# Altium footprint library AltiumDesigner.PcbLib: 1 footprints
Each footprint in its own frame and in the unit in brackets; x right, y up, seen from the top. Pads: shape width x height; smd on the part's side, far side on the other; paste and mask are expansions set on the pad; w line width, h text height; cw(c..) or ccw(c..) is an arc to the next point about the centre after c.
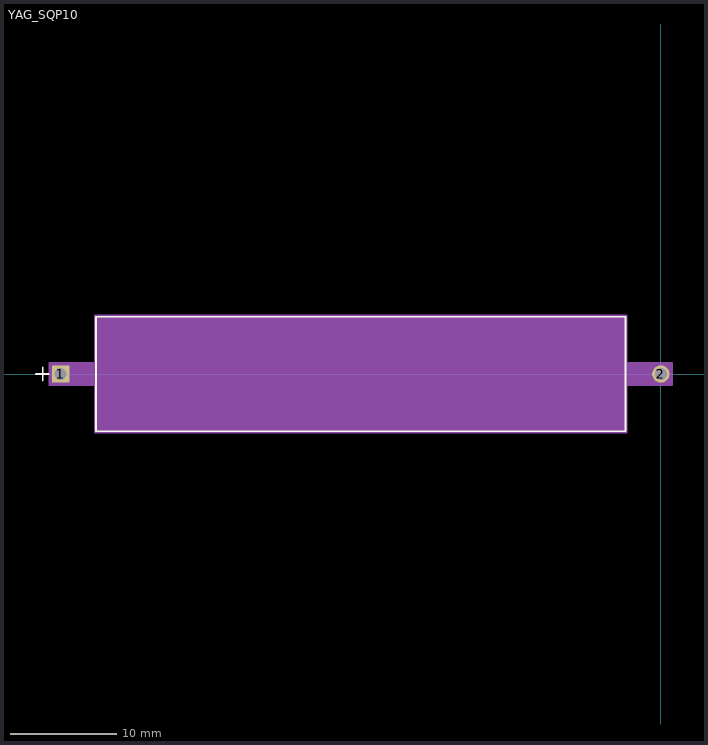
[diagram p0: the footprint, top view; thin cyan lines are the x and y axes]

## YAG_SQP10 [mil]
pads (2):
  rect 64x64 hole 44 mask+0: 1(-2220,0)
  round 64 hole 44 mask+0: 2(0,0)
Top Overlay:
  lines w6: -2312,0 -2265.1,0 ; -2287,-25 -2287,25 ; -2089.5,-211.5 -2089.5,211.5 -130.5,211.5 -130.5,-211.5 -2089.5,-211.5
Mechanical 13:
  lines w1: -2312,0 -2262,0 ; -2287,-25 -2287,25 ; -2220,0 -2084.5,0 ; -135.5,0 0,0 ; -2084.5,-206.5 -2084.5,206.5 -135.5,206.5 -135.5,-206.5 -2084.5,-206.5
Mechanical 15:
  region: -2094.5,-42 -2262,-42 -2262,42 -2094.5,42 -2094.5,216.5 -125.5,216.5 -125.5,42 42,42 42,-42 -125.5,-42 -125.5,-216.5 -2094.5,-216.5
  lines w6: -2262,-42 -2094.5,-42 -2094.5,-216.5 -125.5,-216.5 -125.5,-42 42,-42 42,42 -125.5,42 -125.5,216.5 -2094.5,216.5 -2094.5,42 -2262,42 -2262,-42
3D body "YAG_SQP10.stp": height 412.99, standoff -110, extent -2237,-206.49 17.01,206.5
3D body: height 10, standoff 0, extent -965,75 -965,75
3D body: height 10, standoff 0, extent 0,0 10,10